# Altium integrated library Silicon Labs Video.IntLib: 4 symbols
Pins are listed as number, name and electrical type; pins without a type are passive.

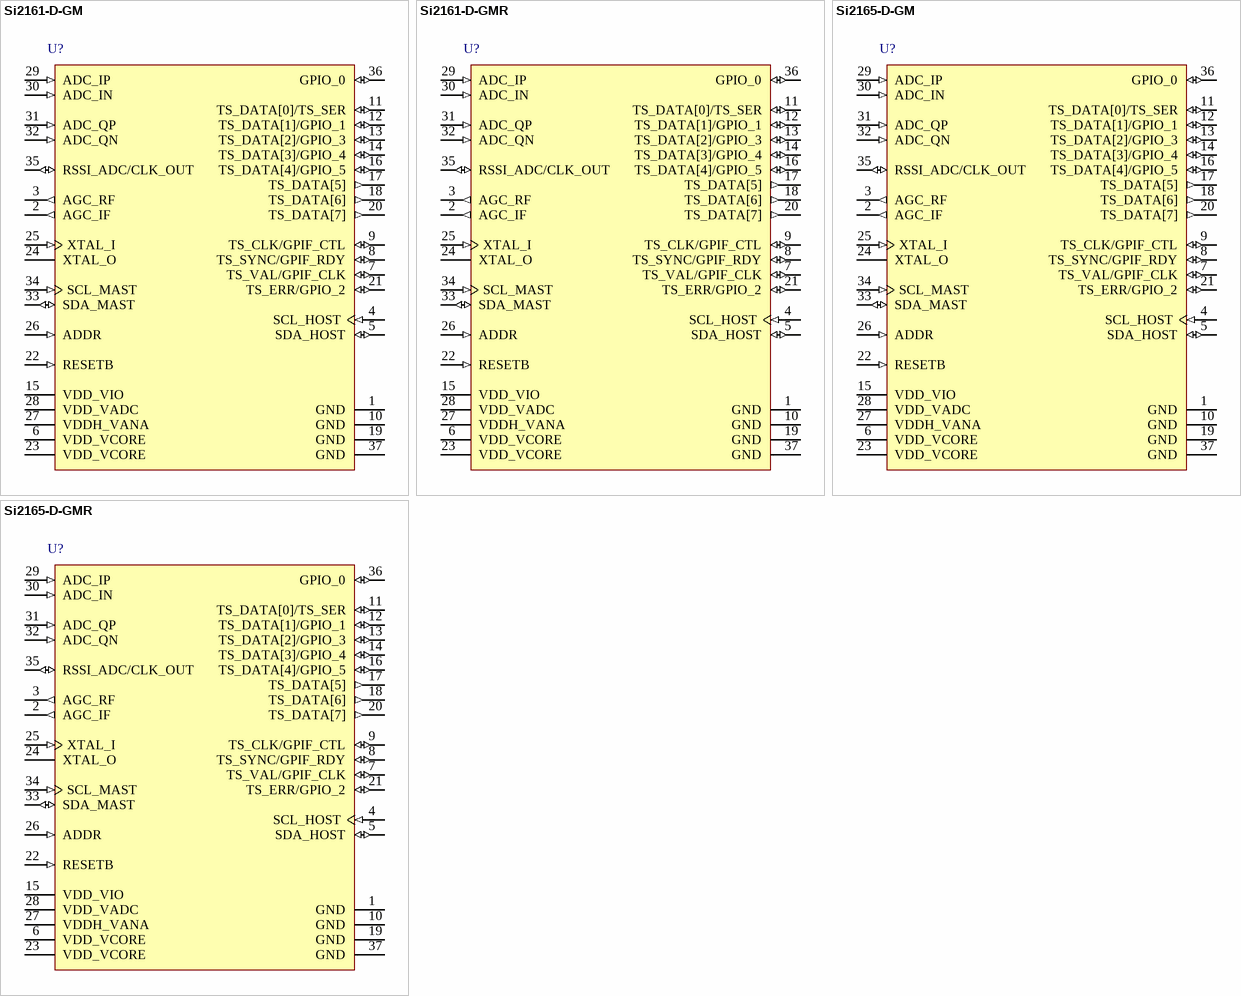
[diagram p0: symbols Si2161-D-GM to Si2165-D-GMR]

## Si2161-D-GM
designator U?
DVB-T Demodulator, 0 to 85 degC, 36-pin QFN, Tray; Manufacturer: Silicon Labs; PartNumber: Si2161-D-GM; Sub-Family: Digital TV Demodulators; PackageReference: QFN-36; PackageDescription: 36-Pin Quad-Flat No-Leads Package, Body 6 x 5 mm, Pitch 0.5 mm; Supplier 1: Digi-Key; Supplier Part Number 1: SI2161-D-GM-ND; Packing: Tray; Mounting Technology: Surface Mount; ComponentLink1Description: Manufacturer URL; ComponentLink1URL: http://www.silabs.com/; ComponentLink2Description: Datasheet; ComponentLink2URL: http://www.silabs.com/Support Documents/TechnicalDocs/Si2161-short.pdf; ComponentLink3Description: Package Specification; ComponentLink3URL: http://www.silabs.com/Support%20Documents/TechnicalDocs/Si2161-short.pdf
footprint SLAB-QFN-36-3600x4100TP_N (QFN, 36-Leads, Body 6.05x5.05mm, Pitch 0.5mm, Thermal Pad 3.6x4.1mm, IPC Medium Density)
footprint SLAB-QFN-36-3600x4100TP_L (QFN, 36-Leads, Body 6.05x5.05mm, Pitch 0.5mm, Thermal Pad 3.6x4.1mm, IPC High Density)
footprint SLAB-QFN-36-3600x4100TP_M (QFN, 36-Leads, Body 6.05x5.05mm, Pitch 0.5mm, Thermal Pad 3.6x4.1mm, IPC Low Density)
pins: 1 GND (power), 2 AGC_IF (out), 3 AGC_RF (out), 4 SCL_HOST (in), 5 SDA_HOST (io), 6 VDD_VCORE (power), 7 TS_VAL/GPIF_CLK (io), 8 TS_SYNC/GPIF_RDY (io), 9 TS_CLK/GPIF_CTL (io), 10 GND (power), 11 TS_DATA[0]/TS_SER (io), 12 TS_DATA[1]/GPIO_1 (io), 13 TS_DATA[2]/GPIO_3 (io), 14 TS_DATA[3]/GPIO_4 (io), 15 VDD_VIO (power), 16 TS_DATA[4]/GPIO_5 (io), 17 TS_DATA[5] (out), 18 TS_DATA[6] (out), 19 GND (power), 20 TS_DATA[7] (out), 21 TS_ERR/GPIO_2 (io), 22 RESETB (in), 23 VDD_VCORE (power), 24 XTAL_O, 25 XTAL_I (in), 26 ADDR (in), 27 VDDH_VANA (power), 28 VDD_VADC (power), 29 ADC_IP (in), 30 ADC_IN (in), 31 ADC_QP (in), 32 ADC_QN (in), 33 SDA_MAST (io), 34 SCL_MAST (in), 35 RSSI_ADC/CLK_OUT (io), 36 GPIO_0 (io), 37 GND (power)

## Si2161-D-GMR
designator U?
DVB-T Demodulator, 0 to 85 degC, 36-pin QFN, Tape and Reel; Manufacturer: Silicon Labs; PartNumber: Si2161-D-GMR; Sub-Family: Digital TV Demodulators; PackageReference: QFN-36; PackageDescription: 36-Pin Quad-Flat No-Leads Package, Body 6 x 5 mm, Pitch 0.5 mm; Supplier 1: Digi-Key; Supplier Part Number 1: SI2161-D-GMR-ND; Supplier 2: Mouser; Supplier Part Number 2: 634-SI2161-D-GMR; Packing: Tape and Reel; Mounting Technology: Surface Mount; ComponentLink1Description: Manufacturer URL; ComponentLink1URL: http://www.silabs.com/; ComponentLink2Description: Datasheet; ComponentLink2URL: http://www.silabs.com/Support Documents/TechnicalDocs/Si2161-short.pdf; ComponentLink3Description: Package Specification; ComponentLink3URL: http://www.silabs.com/Support%20Documents/TechnicalDocs/Si2161-short.pdf
footprint SLAB-QFN-36-3600x4100TP_N (QFN, 36-Leads, Body 6.05x5.05mm, Pitch 0.5mm, Thermal Pad 3.6x4.1mm, IPC Medium Density)
footprint SLAB-QFN-36-3600x4100TP_L (QFN, 36-Leads, Body 6.05x5.05mm, Pitch 0.5mm, Thermal Pad 3.6x4.1mm, IPC High Density)
footprint SLAB-QFN-36-3600x4100TP_M (QFN, 36-Leads, Body 6.05x5.05mm, Pitch 0.5mm, Thermal Pad 3.6x4.1mm, IPC Low Density)
pins: 1 GND (power), 2 AGC_IF (out), 3 AGC_RF (out), 4 SCL_HOST (in), 5 SDA_HOST (io), 6 VDD_VCORE (power), 7 TS_VAL/GPIF_CLK (io), 8 TS_SYNC/GPIF_RDY (io), 9 TS_CLK/GPIF_CTL (io), 10 GND (power), 11 TS_DATA[0]/TS_SER (io), 12 TS_DATA[1]/GPIO_1 (io), 13 TS_DATA[2]/GPIO_3 (io), 14 TS_DATA[3]/GPIO_4 (io), 15 VDD_VIO (power), 16 TS_DATA[4]/GPIO_5 (io), 17 TS_DATA[5] (out), 18 TS_DATA[6] (out), 19 GND (power), 20 TS_DATA[7] (out), 21 TS_ERR/GPIO_2 (io), 22 RESETB (in), 23 VDD_VCORE (power), 24 XTAL_O, 25 XTAL_I (in), 26 ADDR (in), 27 VDDH_VANA (power), 28 VDD_VADC (power), 29 ADC_IP (in), 30 ADC_IN (in), 31 ADC_QP (in), 32 ADC_QN (in), 33 SDA_MAST (io), 34 SCL_MAST (in), 35 RSSI_ADC/CLK_OUT (io), 36 GPIO_0 (io), 37 GND (power)

## Si2165-D-GM
designator U?
Multi-Standard DVB-T and DVB-C Demodulator, 0 to 85 degC, 36-pin QFN, Tray; Manufacturer: Silicon Labs; PartNumber: Si2165-D-GM; Sub-Family: Digital TV Demodulators; PackageReference: QFN-36; PackageDescription: 36-Pin Quad-Flat No-Leads Package, Body 6 x 5 mm, Pitch 0.5 mm; Supplier 1: Digi-Key; Supplier Part Number 1: SI2165-D-GM-ND; Packing: Tray; Mounting Technology: Surface Mount; ComponentLink1Description: Manufacturer URL; ComponentLink1URL: http://www.silabs.com/; ComponentLink2Description: Datasheet; ComponentLink2URL: http://www.silabs.com/Support Documents/TechnicalDocs/Si2165-short.pdf; ComponentLink3Description: Package Specification; ComponentLink3URL: http://www.silabs.com/Support%20Documents/TechnicalDocs/Si2161-short.pdf
footprint SLAB-QFN-36-3600x4100TP_N (QFN, 36-Leads, Body 6.05x5.05mm, Pitch 0.5mm, Thermal Pad 3.6x4.1mm, IPC Medium Density)
footprint SLAB-QFN-36-3600x4100TP_L (QFN, 36-Leads, Body 6.05x5.05mm, Pitch 0.5mm, Thermal Pad 3.6x4.1mm, IPC High Density)
footprint SLAB-QFN-36-3600x4100TP_M (QFN, 36-Leads, Body 6.05x5.05mm, Pitch 0.5mm, Thermal Pad 3.6x4.1mm, IPC Low Density)
pins: 1 GND (power), 2 AGC_IF (out), 3 AGC_RF (out), 4 SCL_HOST (in), 5 SDA_HOST (io), 6 VDD_VCORE (power), 7 TS_VAL/GPIF_CLK (io), 8 TS_SYNC/GPIF_RDY (io), 9 TS_CLK/GPIF_CTL (io), 10 GND (power), 11 TS_DATA[0]/TS_SER (io), 12 TS_DATA[1]/GPIO_1 (io), 13 TS_DATA[2]/GPIO_3 (io), 14 TS_DATA[3]/GPIO_4 (io), 15 VDD_VIO (power), 16 TS_DATA[4]/GPIO_5 (io), 17 TS_DATA[5] (out), 18 TS_DATA[6] (out), 19 GND (power), 20 TS_DATA[7] (out), 21 TS_ERR/GPIO_2 (io), 22 RESETB (in), 23 VDD_VCORE (power), 24 XTAL_O, 25 XTAL_I (in), 26 ADDR (in), 27 VDDH_VANA (power), 28 VDD_VADC (power), 29 ADC_IP (in), 30 ADC_IN (in), 31 ADC_QP (in), 32 ADC_QN (in), 33 SDA_MAST (io), 34 SCL_MAST (in), 35 RSSI_ADC/CLK_OUT (io), 36 GPIO_0 (io), 37 GND (power)

## Si2165-D-GMR
designator U?
Multi-Standard DVB-T and DVB-C Demodulator, 0 to 85 degC, 36-pin QFN, Tape and Reel; Manufacturer: Silicon Labs; PartNumber: Si2165-D-GMR; Sub-Family: Digital TV Demodulators; PackageReference: QFN-36; PackageDescription: 36-Pin Quad-Flat No-Leads Package, Body 6 x 5 mm, Pitch 0.5 mm; Supplier 1: Digi-Key; Supplier Part Number 1: SI2165-D-GMR-ND; Supplier 2: Mouser; Supplier Part Number 2: 634-SI2165-D-GMR; Packing: Tape and Reel; Mounting Technology: Surface Mount; ComponentLink1Description: Manufacturer URL; ComponentLink1URL: http://www.silabs.com/; ComponentLink2Description: Datasheet; ComponentLink2URL: http://www.silabs.com/Support Documents/TechnicalDocs/Si2165-short.pdf; ComponentLink3Description: Package Specification; ComponentLink3URL: http://www.silabs.com/Support%20Documents/TechnicalDocs/Si2161-short.pdf
footprint SLAB-QFN-36-3600x4100TP_N (QFN, 36-Leads, Body 6.05x5.05mm, Pitch 0.5mm, Thermal Pad 3.6x4.1mm, IPC Medium Density)
footprint SLAB-QFN-36-3600x4100TP_L (QFN, 36-Leads, Body 6.05x5.05mm, Pitch 0.5mm, Thermal Pad 3.6x4.1mm, IPC High Density)
footprint SLAB-QFN-36-3600x4100TP_M (QFN, 36-Leads, Body 6.05x5.05mm, Pitch 0.5mm, Thermal Pad 3.6x4.1mm, IPC Low Density)
pins: 1 GND (power), 2 AGC_IF (out), 3 AGC_RF (out), 4 SCL_HOST (in), 5 SDA_HOST (io), 6 VDD_VCORE (power), 7 TS_VAL/GPIF_CLK (io), 8 TS_SYNC/GPIF_RDY (io), 9 TS_CLK/GPIF_CTL (io), 10 GND (power), 11 TS_DATA[0]/TS_SER (io), 12 TS_DATA[1]/GPIO_1 (io), 13 TS_DATA[2]/GPIO_3 (io), 14 TS_DATA[3]/GPIO_4 (io), 15 VDD_VIO (power), 16 TS_DATA[4]/GPIO_5 (io), 17 TS_DATA[5] (out), 18 TS_DATA[6] (out), 19 GND (power), 20 TS_DATA[7] (out), 21 TS_ERR/GPIO_2 (io), 22 RESETB (in), 23 VDD_VCORE (power), 24 XTAL_O, 25 XTAL_I (in), 26 ADDR (in), 27 VDDH_VANA (power), 28 VDD_VADC (power), 29 ADC_IP (in), 30 ADC_IN (in), 31 ADC_QP (in), 32 ADC_QN (in), 33 SDA_MAST (io), 34 SCL_MAST (in), 35 RSSI_ADC/CLK_OUT (io), 36 GPIO_0 (io), 37 GND (power)